# Altium footprint library VL53L0X.PcbLib: 1 footprints
Each footprint in its own frame and in the unit in brackets; x right, y up, seen from the top. Pads: shape width x height; smd on the part's side, far side on the other; paste and mask are expansions set on the pad; w line width, h text height; cw(c..) or ccw(c..) is an arc to the next point about the centre after c.
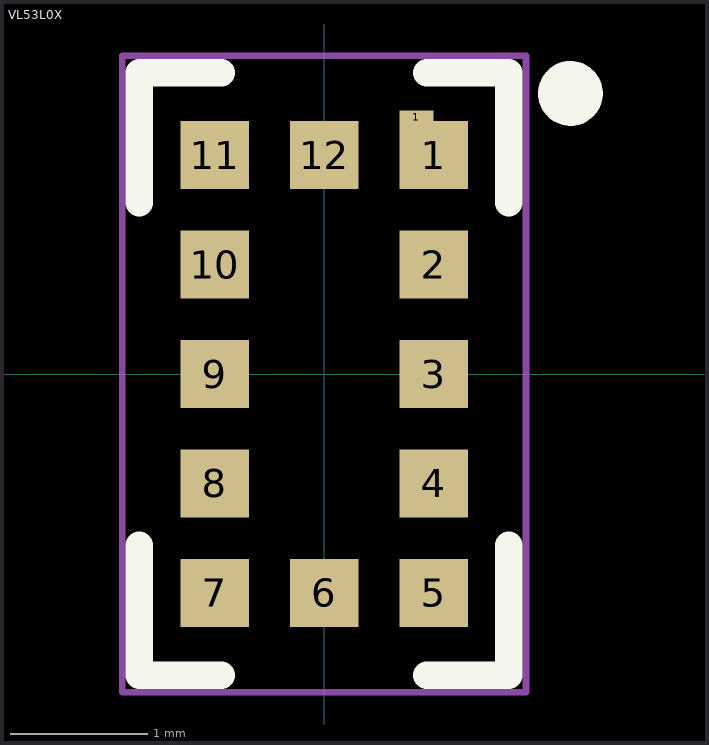
[diagram p0: the footprint, top view; thin cyan lines are the x and y axes]

## VL53L0X [mm]
pads (13):
  rect 0.25x0.1 smd mask+0.08: 1(0.675,1.875)
  rect 0.5x0.5 smd mask+0.08: 1(0.8,1.6) 2(0.8,0.8) 3(0.8,0) 4(0.8,-0.8) 5(0.8,-1.6) 6(0,-1.6) 7(-0.8,-1.6) 8(-0.8,-0.8) 9(-0.8,0) 10(-0.8,0.8) 11(-0.8,1.6) 12(0,1.6)
Top Overlay:
  circle w0.25: c1.8,2.05 r0.112
  lines w0.2: -1.35,-1.25 -1.35,-2.2 -0.75,-2.2 ; -1.35,1.25 -1.35,2.2 -0.75,2.2 ; 0.75,-2.2 1.35,-2.2 1.35,-1.25 ; 0.75,2.2 1.35,2.2 1.35,1.25
Mechanical 15:
  lines w0.05: -1.475,-2.325 1.475,-2.325 1.475,2.325 -1.475,2.325 -1.475,-2.325
3D body: height 1, standoff 0, extent -1.35,-2.2 1.35,2.2